# Altium schematic symbol library SCH - CONNECTORS - 6 PIN.SCHLIB: 1 symbol
Pins are listed as number, name and electrical type; pins without a type are passive.

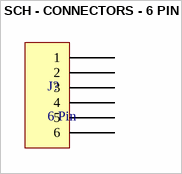
[diagram p0: symbol SCH - CONNECTORS - 6 PIN]

## SCH - CONNECTORS - 6 PIN
designator J?, comment 6 Pin
pins: 1, 2, 3, 4, 5, 6